# EAGLE library part RT8068A (library icnh3)
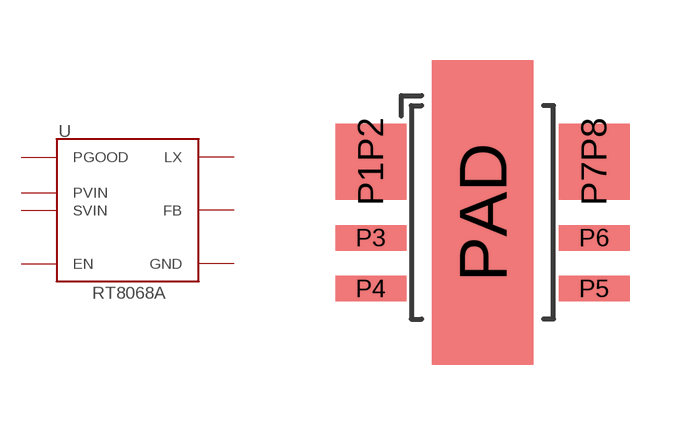
[diagram p5: symbol with the pads of RICHTEK_PSU; footprint RICHTEK_PSU]

Designator prefix U

## RT8068A  [RICHTEK_PSU]
P1P2  LX
P3  PGOOD
P4  EN
P5  FB
P6  SVIN
P7P8  PVIN
PAD  GND

## Footprint RICHTEK_PSU (pad centres in mm)
smd 1.778 x 1.905: P1P2 0,-0.635; P7P8 5.588,-0.635
smd 1.778 x 0.635: P3 0,-2.54; P4 0,-3.81; P5 5.588,-3.81; P6 5.588,-2.54
smd 2.54 x 7.62: PAD 2.794,-1.905